# Altium footprint library Fuse.PcbLib: 26 footprints (part 1 of 2)
Each footprint in its own frame and in the unit in brackets; x right, y up, seen from the top. Pads: shape width x height; smd on the part's side, far side on the other; paste and mask are expansions set on the pad; w line width, h text height; cw(c..) or ccw(c..) is an arc to the next point about the centre after c.
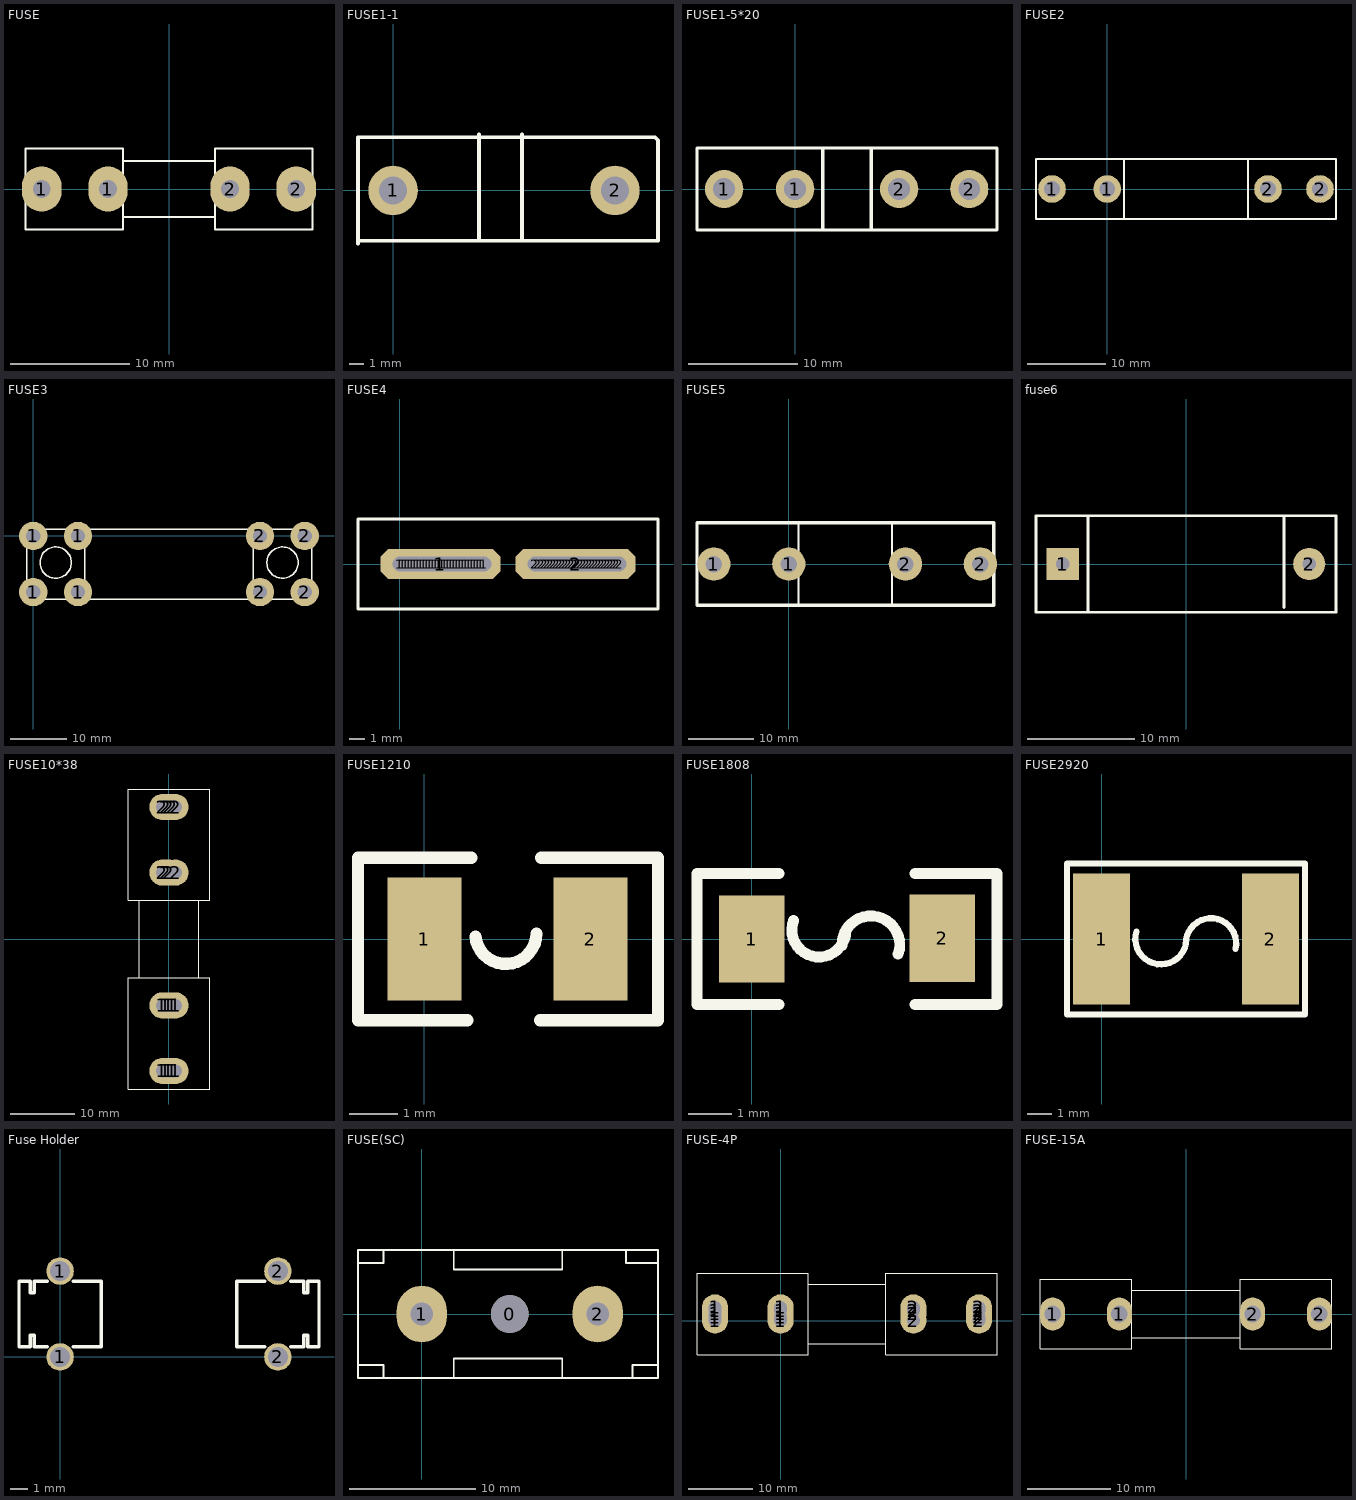
[diagram p0: the footprints below, top view; thin cyan lines are the x and y axes]

## FUSE [mm]
pads (4):
  oval 3.3x3.8 hole 1.5: 1(-10.64,0) 1(-5.1,0) 2(5.1,0) 2(10.64,0)
Top Overlay:
  lines w0.15: -3.84,-2.35 3.84,-2.35 ; -3.84,2.35 3.84,2.35 ; -12,-3.38 -3.84,-3.38 -3.84,3.38 -12,3.38 -12,-3.38 ; 3.84,-3.38 12,-3.38 12,3.38 3.84,3.38 3.84,-3.38
3D body: height 2.86, standoff -10.04, extent -10.839,-3.095 10.839,3.095

## FUSE1-1 [mil]
pads (2):
  round 138 hole 79: 1(0,0) 2(620,0)
Top Overlay:
  lines w10: -98,-140 740,-140 740,140 732,148 -98,148
  lines w12: -98,-148 -98,148 ; 240,-140 240,156 ; 360,-140 360,156
3D body: height 374.02, standoff -155.51, extent -85.67,-120 705.67,112.58

## FUSE1-5*20 [mil]
pads (4):
  round 138 hole 79: 1(-256,0) 1(0,0) 2(375,0) 2(628,0)
Top Overlay:
  lines w12: 99,-148 99,148 ; 274,-148 274,148 ; -354,-148 -354,148 728,148 728,-148 -354,-148
3D body: height 374.02, standoff -155.51, extent -215.67,-115 575.67,117.58

## FUSE2 [mil]
pads (4):
  round 138 hole 79: 1(-276,0) 1(0,0) 2(804,0) 2(1064,0)
Top Overlay:
  lines w10: 84,-150 84,150 ; 704,-150 704,150 ; -356,-150 1144,-150 1144,150 -356,150 -356,-150

## FUSE3 [mil]
pads (8):
  round 200 hole 100: 1(0,-394) 1(0,0) 1(315,-394) 1(315,0) 2(1595,-394) 2(1595,0) 2(1910,-394) 2(1910,0)
Top Overlay:
  circle w10: c158,-187 r110
  circle w10: c1753,-187 r110
  lines w10: 363,-444 -47,-444 -47,47 363,47 ; 363,-444 363,47 ; 363,-444 1548,-444 ; 363,47 1548,47 ; 1548,-444 1958,-444 1958,47 1548,47 ; 1548,-444 1548,47

## FUSE4 [mm]
pads (60):
  round 1.1 hole 1: 1(0,0) 1(0.2,0) 1(0.4,0) 1(0.6,0) 1(0.8,0) 1(1,0) 1(1.2,0) 1(1.4,0) 1(1.6,0) 1(1.8,0) 1(2,0) 1(2.2,0) 1(2.4,0) 1(2.6,0) 1(2.82,0) 1(3,0) 1(3.2,0) 1(3.4,0) 1(3.6,0) 1(3.8,0) 1(4,0) 1(4.2,0) 1(4.4,0) 1(4.6,0) 1(4.8,0) 1(5,0) 1(5.2,0) 1(5.4,0) 1(5.6,0) 2(9,0) 2(9.2,0) 2(9.4,0) 2(9.6,0) 2(9.8,0) 2(10,0) 2(10.2,0) 2(10.4,0) 2(10.6,0) 2(10.8,0) 2(11,0) 2(11.2,0) 2(11.4,0) 2(11.6,0) 2(11.8,0) 2(12,0) 2(12.2,0) 2(12.4,0) 2(12.6,0) 2(12.8,0) 2(13,0) 2(13.2,0) 2(13.4,0) 2(13.6,0) 2(13.8,0) 2(14,0) 2(14.2,0) 2(14.4,0) 2(14.6,0)
  oct 8x2 hole 1: 1(2.7,0) 2(11.7,0)
Top Overlay:
  lines w0.203: -2.8,-3 -2.8,3 17.2,3 17.2,-3 -2.8,-3

## FUSE5 [mm]
pads (4):
  round 5.08 hole 2.54: 1(-11.43,0) 1(0,0) 2(17.78,0) 2(29.21,0)
Top Overlay:
  lines w0.305: 1.473,-6.274 1.473,6.299 ; 15.748,-6.274 15.748,6.299
  lines w0.508: -13.995,-6.299 -13.995,6.325 31.267,6.325 31.267,-6.299 -13.995,-6.299

## fuse6 [mm]
pads (2):
  rect 3x3 hole 1.3: 1(-11.5,0)
  round 3 hole 1.3: 2(11.5,0)
Top Overlay:
  lines w0.254: -9.144,-4.5 -9.144,4.5 ; 9.144,-4.064 9.144,4.5 ; -14,-4.5 14,-4.5 14,4.5 -14,4.5 -14,4.288 -14,-4.5

## FUSE10*38 [mil]
pads (19):
  round 160 hole 80: 1(-40,-804.87) 1(-40,-404.87) 1(-20,-804.87) 1(-20,-404.87) 1(-0.11,-805.13) 1(20,-804.87) 1(20,-404.87) 1(40,-804.87) 1(40,-404.87) 2(-40,405.13) 2(-40,805.13) 2(-20,405.13) 2(-20,805.13) 2(20,805.13) 2(40,405.13) 2(40,805.13)
  round 160 hole 60: 1(-0.11,-405.13) 2(-0.11,404.87) 2(-0.11,804.87)
Top Overlay:
  lines w6: -179.76,-234.96 -179.76,235.04 ; 180.24,-234.96 180.24,235.04 ; -249.76,-914.96 250.24,-914.96 250.24,-234.96 -249.76,-234.96 -249.76,-914.96 ; -249.76,235.04 250.24,235.04 250.24,915.04 -249.76,915.04 -249.76,235.04

## FUSE1210 [mil]
pads (2):
  rect 60x100 smd: 1(0,0) 2(135,0)
Top Overlay:
  lines w10: 35,-66 -54,-66 -54,66 38,66 ; 41.49,2.03 ccw(c66.23,4.62) 91.1,4.45 ; 94,-66 190,-66 190,66 ; 95,66 188.8,66

## FUSE1808 [mil]
pads (2):
  rect 60x80 smd: 1(0,0) 2(174.88,0.76)
Top Overlay:
  lines w10: 25,-60 -50,-60 -50,60 25,60 ; 38.48,17.1 ccw(c61.78,8.39) 86.65,8.23 ; 82.99,-5.83 cw(c109.4,-5.25) 134.37,-13.85 ; 150,-60 225,-60 225,60 150,60

## FUSE2920 [mm]
pads (2):
  rect 2.3x5.3 smd: 1(0,0) 2(6.8,0)
Top Overlay:
  lines w0.254: 1.4,0.3 ccw(c2.388,0.007) 3.418,0 ; 3.391,-0.2 cw(c4.408,-0.178) 5.4,-0.4 ; -1.4,-3.048 -1.4,3.048 8.2,3.048 8.2,-3.048 -1.4,-3.048

## Fuse Holder [mm]
pads (4):
  round 1.6 hole 1.17 mask+0.06: 1(0,0) 1(0,5) 2(12.7,0) 2(12.7,5)
Top Overlay:
  lines w0.2: -0.75,0.6 -1.5,0.6 -1.5,1.25 -1.75,1.25 -1.75,0.6 -2.4,0.6 -2.4,4.4 -1.75,4.4 -1.75,3.75 -1.5,3.75 -1.5,4.4 -0.75,4.4 ; 0.75,0.6 2.4,0.6 2.4,4.4 0.75,4.4 ; 11.95,0.6 10.3,0.6 10.3,4.4 11.95,4.4 ; 13.45,0.6 14.2,0.6 14.2,1.25 14.45,1.25 14.45,0.6 15.1,0.6 15.1,4.4 14.45,4.4 14.45,3.75 14.2,3.75 14.2,4.4 13.45,4.4
3D body: height 7.4, standoff -2.95, extent -2.275,0 2.525,5.1
3D body: height 7.4, standoff -2.95, extent 10.325,0 15.125,5.1

## FUSE(SC) [mm]
pads (3):
  round 3 hole 3: 0(7,0)
  oval 4x4.5 hole 1.8: 1(0,0) 2(14,0)
Top Overlay:
  lines w0.15: -5.08,-4.064 -3.048,-4.064 -3.048,-5.08 ; -5.08,4.064 -3.048,4.064 -3.048,5.08 ; 2.54,-5.08 2.54,-3.556 11.176,-3.556 11.176,-5.08 ; 2.54,5.08 2.54,3.556 11.176,3.556 11.176,5.08 ; 16.256,5.08 16.256,4.064 18.796,4.064 ; 16.764,-5.08 16.764,-4.064 18.796,-4.064 ; -5.08,-5.08 -5.08,5.08 18.796,5.08 18.796,-5.08 -5.08,-5.08
3D body: height 10.5, standoff -2.87, extent -5.451,-5.604 18.949,3.796

## FUSE-4P [mil]
pads (19):
  round 160 hole 80: 1(-400.25,40.11) 1(-400,0) 1(-400,20) 1(-400,60) 1(-400,80) 1(0,0) 1(0,20) 1(0,60) 1(0,80) 2(810,0) 2(810,60) 2(810,80) 2(1210,0) 2(1210,20) 2(1210,60) 2(1210,80)
  round 160 hole 60: 1(-0.25,40.11) 2(809.75,40.11) 2(1209.75,40.11)
Top Overlay:
  lines w6: 169.91,-140.24 639.91,-140.24 ; 169.91,219.76 639.91,219.76 ; -510.09,-210.24 -510.09,289.76 169.91,289.76 169.91,-210.24 -510.09,-210.24 ; 639.91,-210.24 639.91,289.76 1319.91,289.76 1319.91,-210.24 639.91,-210.24

## FUSE-15A [mm]
pads (4):
  oval 3x4 hole 2: 1(-16,0) 1(-8,0) 2(8,0) 2(16,0)
Top Overlay:
  lines w0.15: -6.5,-2.85 6.5,-2.85 ; -6.5,2.85 6.5,2.85 ; -17.5,-4.2 -6.5,-4.2 -6.5,4.2 -17.5,4.2 -17.5,-4.2 ; 6.5,-4.2 6.5,4.2 17.5,4.2 17.5,-4.2 6.5,-4.2
3D body: height 10.47, standoff -3.05, extent 7.936,-3.825 16.064,3.825
3D body: height 10.47, standoff -3.05, extent -16.064,-3.825 -7.936,3.825
3D body: height 9.92, standoff 3.57, extent -14.478,-3.175 14.478,3.175